# Altium footprint library SMAJ.PcbLib: 1 footprints
Each footprint in its own frame and in the unit in brackets; x right, y up, seen from the top. Pads: shape width x height; smd on the part's side, far side on the other; paste and mask are expansions set on the pad; w line width, h text height; cw(c..) or ccw(c..) is an arc to the next point about the centre after c.
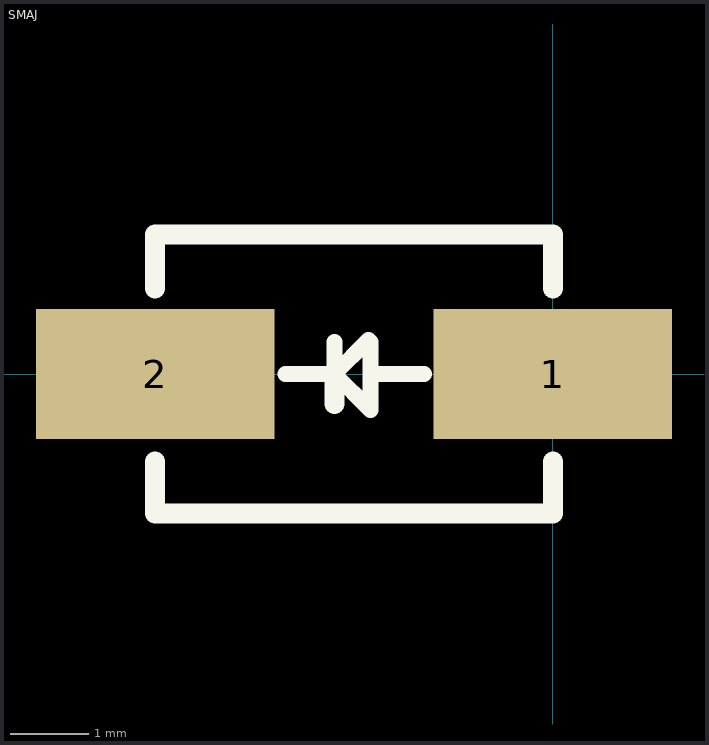
[diagram p0: the footprint, top view; thin cyan lines are the x and y axes]

## SMAJ [mm]
pads (2):
  rect 3.04x1.66 smd: 1(0,0) 2(-5.07,0)
TopOverlay:
  lines w0.203: -3.41,0 -3.038,0 -2.784,0 ; -2.784,0.406 -2.784,0 ; -2.352,0.432 -2.784,0 ; -2.327,0 -1.92,0 -1.644,0 ; -2.327,0.406 -2.327,-0.457 -2.784,0
  lines w0.254: -5.07,-1.118 -5.07,-1.778 0,-1.778 0,-1.118 ; -5.07,1.092 -5.07,1.778 0,1.778 0,1.092 ; -2.784,-0.381 -2.784,0
Mechanical4:
  text ".065" at -5.07,0 h0.03